# Altium footprint library Virtex.PcbLib: 30 footprints (part 1 of 2)
Each footprint in its own frame and in the unit in brackets; x right, y up, seen from the top. Pads: shape width x height; smd on the part's side, far side on the other; paste and mask are expansions set on the pad; w line width, h text height; cw(c..) or ccw(c..) is an arc to the next point about the centre after c.
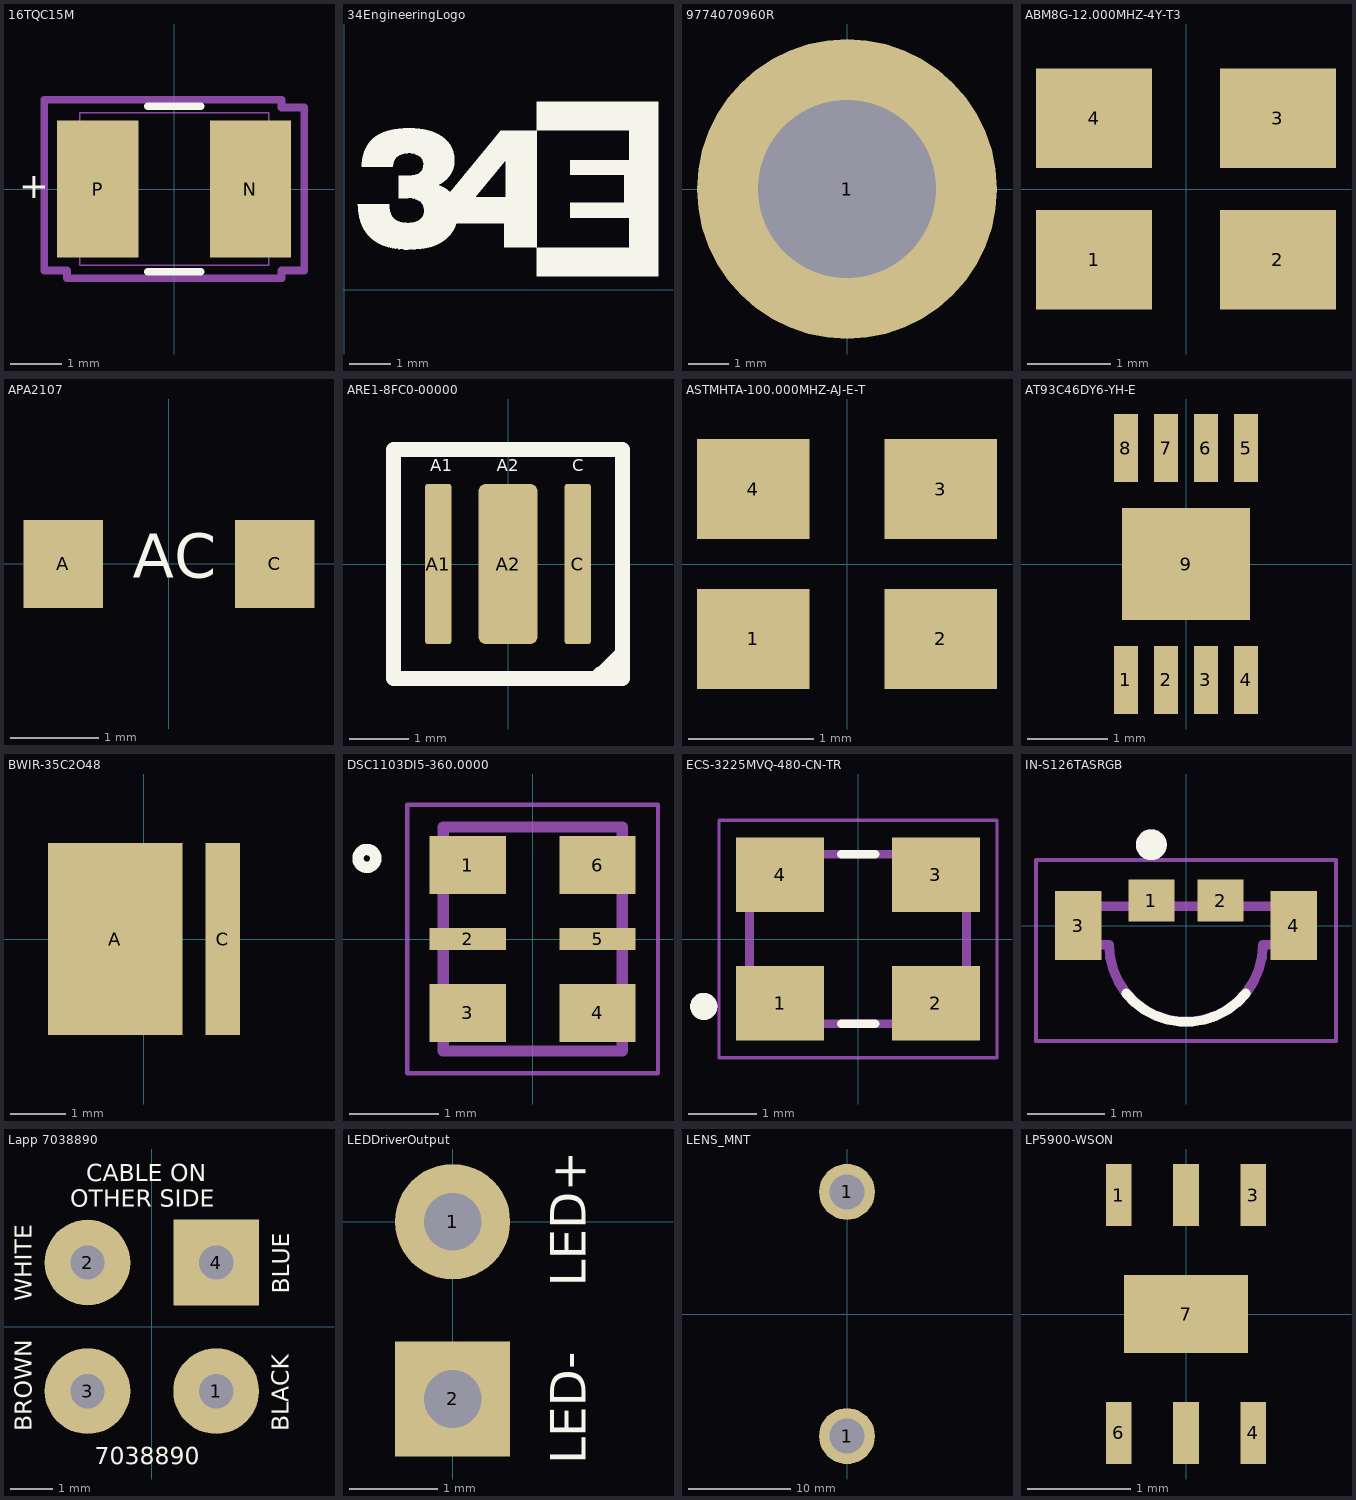
[diagram p0: the footprints below, top view; thin cyan lines are the x and y axes]

## 16TQC15M [mil]
pads (2):
  rect 63x106 smd paste+0 mask+0: N(59,0) P(-59,0)
Top Overlay:
  lines w6: -20.39,-64 20.39,-64 ; -20.39,64 20.39,64
  text "+" at -120.08,-7.27 h20
Mechanical 13:
  lines w1: -73,-59 73,-59 73,59 -73,59 -73,-59
Mechanical 15:
  lines w6: -100.5,-63 -100.5,69 -83,69 83,69 83,63 100.5,63 100.5,-63 83,-63 83,-69 -83,-69 -83,-63 -100.5,-63
3D body: height 10, standoff 0, extent 0,0 10,10
3D body "16TQC15M.step": height 79.52, standoff 0.5, extent -72.99,-59.09 73,59.1

## 34EngineeringLogo [mm]
Top Overlay:
  drawing of 1 lines, arcs and shapes, not listed

## 9774070960R [mm]
pads (1):
  round 7.4 hole 4.4 unplated: 1(0,0)
3D body "9774070960R.stp": height 7, standoff -1.4, extent -3,-3 3,3

## ABM8G-12.000MHZ-4Y-T3 [mil]
pads (4):
  rect 55x47 smd: 1(-43.5,-33.5) 2(43.5,-33.5) 3(43.5,33.5) 4(-43.5,33.5)
3D body "ABM8G-12.000MHZ-4Y-T3.STEP": height 39.37, standoff 0, extent -62.98,-49.21 63,49.22

## APA2107 [mm]
pads (2):
  rect 0.9x1 smd: A(-1.2,0) C(1.2,0)
Top Overlay:
  text "AC" at -0.408,-0.154 h0.5
3D body "APA2107.STEP": height 0.6, standoff 0, extent -1.05,-0.001 1.05,1

## ARE1-8FC0-00000 [mm]
pads (3):
  rrect25% 0.45x2.7 smd: A1(-1.175,0) C(1.175,0)
  rrect25% 1x2.7 smd: A2(0,0)
Top Overlay:
  lines w0.254: 1.549,-1.854 1.549,-1.88 1.88,-1.549 ; -1.925,-1.925 1.925,-1.925 1.925,1.925 -1.925,1.925 -1.925,-1.925
  text "C" at 1.081,1.564 h0.2
  text "A2" at -0.189,1.564 h0.2
  text "A1" at -1.306,1.564 h0.2
3D body "ARE1-8FC0-00000.step": height 1.51, standoff 0, extent -1.945,-1.95 1.905,1.9

## ASTMHTA-100.000MHZ-AJ-E-T [mm]
pads (4):
  rect 0.9x0.8 smd: 1(-0.75,-0.6) 2(0.75,-0.6) 3(0.75,0.6) 4(-0.75,0.6)
3D body "ASTMHTA-100-000MHZ-AJ-E-T.step": height 0.75, standoff 0, extent -1,-0.8 1,0.8

## AT93C46DY6-YH-E [mm]
pads (9):
  rect 0.3x0.85 smd: 1(-0.75,-1.45) 2(-0.25,-1.45) 3(0.25,-1.45) 4(0.75,-1.45) 5(0.75,1.45) 6(0.25,1.45) 7(-0.25,1.45) 8(-0.75,1.45)
  rect 1.6x1.4 smd: 9(0,0)
3D body "AT93C46DY6-YH-E.step": height 0.6, standoff 0, extent -1,-1.5 1,1.5

## BWIR-35C2O48 [mm]
pads (2):
  rect 2.45x3.5 smd paste+0: A(-0.525,0)
  rect 0.625x3.5 smd paste+0: C(1.438,0)
3D body "BWIR-35C2O48.step": height 2, standoff -0.01, extent -1.75,-1.75 1.75,1.75

## DSC1103DI5-360.0000 [mm]
pads (6):
  rect 0.85x0.65 smd: 1(-0.725,0.825) 3(-0.725,-0.825) 4(0.725,-0.825) 6(0.725,0.825)
  rect 0.85x0.25 smd: 2(-0.725,0) 5(0.725,0)
Top Overlay:
  circle w0.127: c-1.85,0.9 r0.1
Mechanical 13:
  lines w0.127: -1,-1.25 1,-1.25 1,1.25 -1,1.25 -1,-1.25
Mechanical 15:
  lines w0.05: -1.4,-1.5 1.4,-1.5 1.4,1.5 -1.4,1.5 -1.4,-1.5
3D body "step_temp.STEP": height 0.88, standoff -0.02, extent -1,-1.25 1,1.25

## ECS-3225MVQ-480-CN-TR [mm]
pads (4):
  rect 1.3x1.1 smd: 1(-1.15,-0.95) 2(1.15,-0.95) 3(1.15,0.95) 4(-1.15,0.95)
Top Overlay:
  circle w0.2: c-2.275,-0.994 r0.1
  lines w0.127: -0.25,-1.25 0.25,-1.25 ; -0.25,1.25 0.25,1.25
Mechanical 13:
  circle w0.2: c-2.275,-0.994 r0.1
  lines w0.127: -1.6,-1.25 1.6,-1.25 1.6,1.25 -1.6,1.25 -1.6,-1.25
Mechanical 15:
  lines w0.05: -2.05,-1.75 -2.05,1.75 2.05,1.75 2.05,-1.75 -2.05,-1.75
3D body "ECS-3225MVQ-480-CN-TR.step": height 1.21, standoff 0.01, extent -1.6,-1.255 1.6,1.245

## IN-S126TASRGB [mm]
pads (4):
  rect 0.6x0.55 smd: 1(-0.45,0.325) 2(0.45,0.325)
  rect 0.6x0.9 smd: 3(-1.4,0) 4(1.4,0)
Top Overlay:
  circle w0.2: c-0.45,1.05 r0.1
  lines w0.127: -0.777,-0.884 ccw(c0,-0.254) 0.777,-0.884
Mechanical 13:
  circle w0.2: c-0.45,1.05 r0.1
  lines w0.127: -1.6,-0.25 -1.6,0.25 1.6,0.25 1.6,-0.25 1,-0.25 cw(c0,-0.25) -1,-0.25 -1.6,-0.25
Mechanical 15:
  lines w0.05: -1.95,-1.5 -1.95,0.85 1.95,0.85 1.95,-1.5 -1.95,-1.5
3D body "IN-S126TASRGB.STEP": height 1, standoff 0, extent -1.6,-1.241 1.6,0.25

## Lapp 7038890 [mm]
pads (4):
  round 2 hole 0.8: 1(1.5,-1.5) 2(-1.5,1.5) 3(-1.5,-1.5)
  rect 2x2 hole 0.8: 4(1.5,1.5)
Top Overlay:
  text "BROWN" at -2.8,-2.433 h0.4
  text "WHITE" at -2.8,0.6 h0.4
  text "BLACK" at 3.2,-2.433 h0.4
  text "BLUE" at 3.2,0.767 h0.4
  text "CABLE ON" at -1.533,3.4 h0.4
  text "7038890" at -1.333,-3.2 h0.4
  text "OTHER SIDE" at -1.899,2.8 h0.4
Bottom Overlay:
  text "WHITE" at -3.2,0.6 h0.4
  text "7038890" at 1.333,-3.2 h0.4
  text "BLACK" at 2.8,-2.433 h0.4
  text "BROWN" at -3.2,-2.433 h0.4
  text "THIS SIDE" at 1.666,2.8 h0.4
  text "CABLE ON" at 1.533,3.4 h0.4
  text "BLUE" at 2.8,0.767 h0.4

## LEDDriverOutput [mm]
pads (2):
  round 1.3 hole 0.65: 1(0,0)
  rect 1.3x1.3 hole 0.65: 2(0,-2)
Top Overlay:
  text "LED+" at 1.5,-0.733 h0.4
  text "LED-" at 1.5,-2.733 h0.4

## LENS_MNT [mm]
pads (2):
  round 5.5 hole 3.4: 1(0,-12) 1(0,12)
3D body "LENS_MNT.step": height 21.99, standoff 0, extent -9.84,-14.398 10.16,14.602

## LP5900-WSON [mm]
pads (7):
  rrect0% 0.25x0.6 smd: 1(-0.65,1.15) 3(0.65,1.15) 4(0.65,-1.15) 6(-0.65,-1.15) ""(0,-1.15) ""(0,1.15)
  rrect0% 1.2x0.75 smd: 7(0,0)
3D body "LP5900-WSON.step": height 0.8, standoff 0, extent -1.092,-1.25 1.108,1.25